# Altium footprint library Components - 22.05.24 - 08.23.PcbLib: 1 footprints
Each footprint in its own frame and in the unit in brackets; x right, y up, seen from the top. Pads: shape width x height; smd on the part's side, far side on the other; paste and mask are expansions set on the pad; w line width, h text height; cw(c..) or ccw(c..) is an arc to the next point about the centre after c.
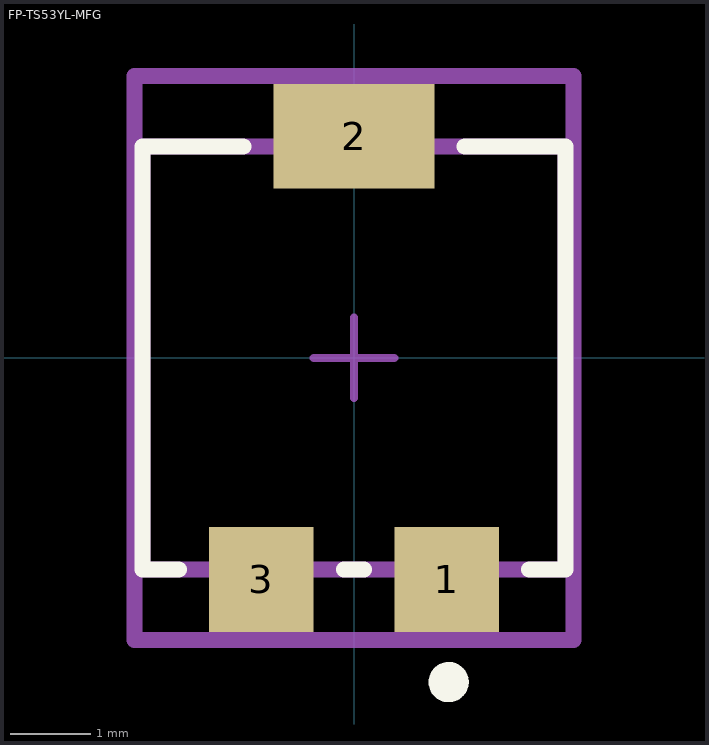
[diagram p0: the footprint, top view; thin cyan lines are the x and y axes]

## FP-TS53YL-MFG [mm]
pads (3):
  rect 1.3x1.3 smd paste+0 mask+0: 1(1.15,-2.75) 3(-1.15,-2.75)
  rect 2x1.3 smd paste+0 mask+0: 2(0,2.75)
Top Overlay:
  circle w0.25: c1.175,-4.025 r0.125
  lines w0.2: -2.175,-2.625 -2.625,-2.625 -2.625,2.625 -1.375,2.625 ; -0.125,-2.625 0.125,-2.625 ; 1.375,2.625 2.625,2.625 2.625,-2.625 2.175,-2.625
Mechanical 5:
  lines w0.2: -2.725,-3.5 2.725,-3.5 2.725,3.5 -2.725,3.5 -2.725,-3.5
  text ".Designator" at 0,-0.001 h1
Mechanical 13:
  lines w0.2: -2.625,-2.625 2.625,-2.625 2.625,2.625 -2.625,2.625 -2.625,-2.625
Mechanical 15:
  lines w0.2: -2.725,-3.5 2.725,-3.5 2.725,3.5 -2.725,3.5 -2.725,-3.5
Mechanical 16:
  lines w0.1: -0.5,0 0.5,0 ; 0,-0.5 0,0.5
3D body "Res_Vishay_TS53YL103MR10_eec.STEP": height 0.25, standoff 0, extent -2.725,-3.5 2.725,3.5